# Altium schematic symbol library G5NB-1A-E-HA_DC24__N__A_.SchLib: 1 symbol
Pins are listed as number, name and electrical type; pins without a type are passive.

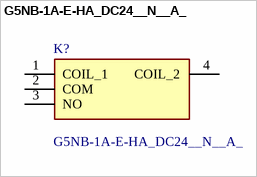
[diagram p0: symbol G5NB-1A-E-HA_DC24__N__A_]

## G5NB-1A-E-HA_DC24__N__A_
designator K?
Manufacturer_Name: Omron Electronics; Manufacturer_Part_Number: G5NB-1A-E-HA DC24 (N)(A); Geometry.Height: 15mm; Mouser Part Number: 653-G5NB1AEHADC24NA; Mouser Price/Stock: https://www.mouser.co.uk/ProductDetail/Omron-Electronics/G5NB-1A-E-HA-DC24-NA?qs=5aG0NVq1C4yCfIg6kxQL%2FA%3D%3D; Description: *; Datasheet Link: https://omronfs.omron.com/en_US/ecb/products/pdf/en-g5nb.pdf
footprint G5NB1A4DC5
pins: 1 COIL_1, 2 COM, 3 NO, 4 COIL_2